# EAGLE library part NCD57084DR2G (library NCD57084DR2G)
High Peak Output Current (+7 A/-7 A); Short Propagation Delays with Accurate Matching; High Transient & Electromagnetic Immunity; 2.5 KVrms On-Chip Galvanic Isolation; Wide Bias Voltage Ranges and Input Voltage Range Source: Datasheet <https://www.onsemi.com/pub/Collateral/NCD57084-D.PDF>
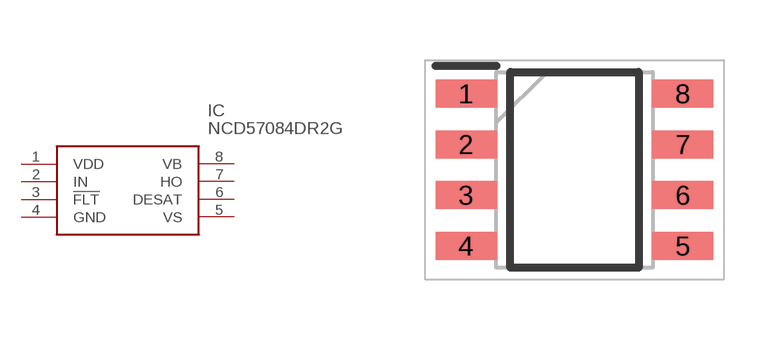
[diagram p0: symbol with the pads of SOIC127P600X175-8N; footprint SOIC127P600X175-8N]

Designator prefix IC

## NCD57084DR2G (Description: High Peak Output Current (+7 A/-7 A); Short Propagation Delays with Accurate Matching; High Transient & Electromagnetic Immunity; 2.5 KVrms On-Chip Galvanic Isolation; Wide Bias Voltage Ranges and Input Voltage Range; Height: 1.75mm; Manufacturer_Name: onsemi; Manufacturer_Part_Number: NCD57084DR2G; Mouser_Part_Number: 863-NCD57084DR2G; Mouser_Price-Stock: https://www.mouser.co.uk/ProductDetail/onsemi/NCD57084DR2G?qs=iLbezkQI%252BshVJf1cw%252BEJ9A%3D%3D)  [SOIC127P600X175-8N]
1  VDD
2  IN
3  !FLT
4  GND
5  VS
6  DESAT
7  HO
8  VB

## Footprint SOIC127P600X175-8N (pad centres in mm)
SOIC−8 NB.
smd 1.525 x 0.7: 1 -2.712,1.905; 2 -2.712,0.635; 3 -2.712,-0.635; 4 -2.712,-1.905; 5 2.712,-1.905; 6 2.712,-0.635; 7 2.712,0.635; 8 2.712,1.905